# Altium footprint library S-202T.PcbLib: 5 footprints
Each footprint in its own frame and in the unit in brackets; x right, y up, seen from the top. Pads: shape width x height; smd on the part's side, far side on the other; paste and mask are expansions set on the pad; w line width, h text height; cw(c..) or ccw(c..) is an arc to the next point about the centre after c.
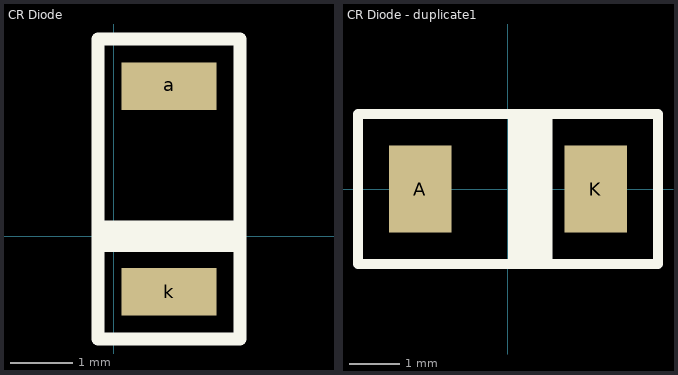
[diagram p0: the footprints below, top view; thin cyan lines are the x and y axes]

## CR Diode [mil]
pads (2):
  rect 60x30 smd: a(35,95) k(35,-35)
Top Overlay:
  rectangle: -10,-10 80,10
  lines w8: -10,-65 -10,125 80,125 80,-65 -10,-65

## CR Diode - duplicate [mil]

## CR Diode - duplicate1 [mm]
pads (2):
  rect 1.25x1.75 smd: A(-1.75,0) K(1.75,0)
Top Overlay:
  rectangle: 0,-1.5 0.889,1.5
  lines w0.2: -3,-1.5 3,-1.5 3,1.5 -3,1.5 -3,0 -3,-1.5

## PCBComponent_1 [mil]

## PCBComponent_1 - duplicate [mil]